# Altium footprint library PcbLib1.PcbLib: 14 footprints
Each footprint in its own frame and in the unit in brackets; x right, y up, seen from the top. Pads: shape width x height; smd on the part's side, far side on the other; paste and mask are expansions set on the pad; w line width, h text height; cw(c..) or ccw(c..) is an arc to the next point about the centre after c.
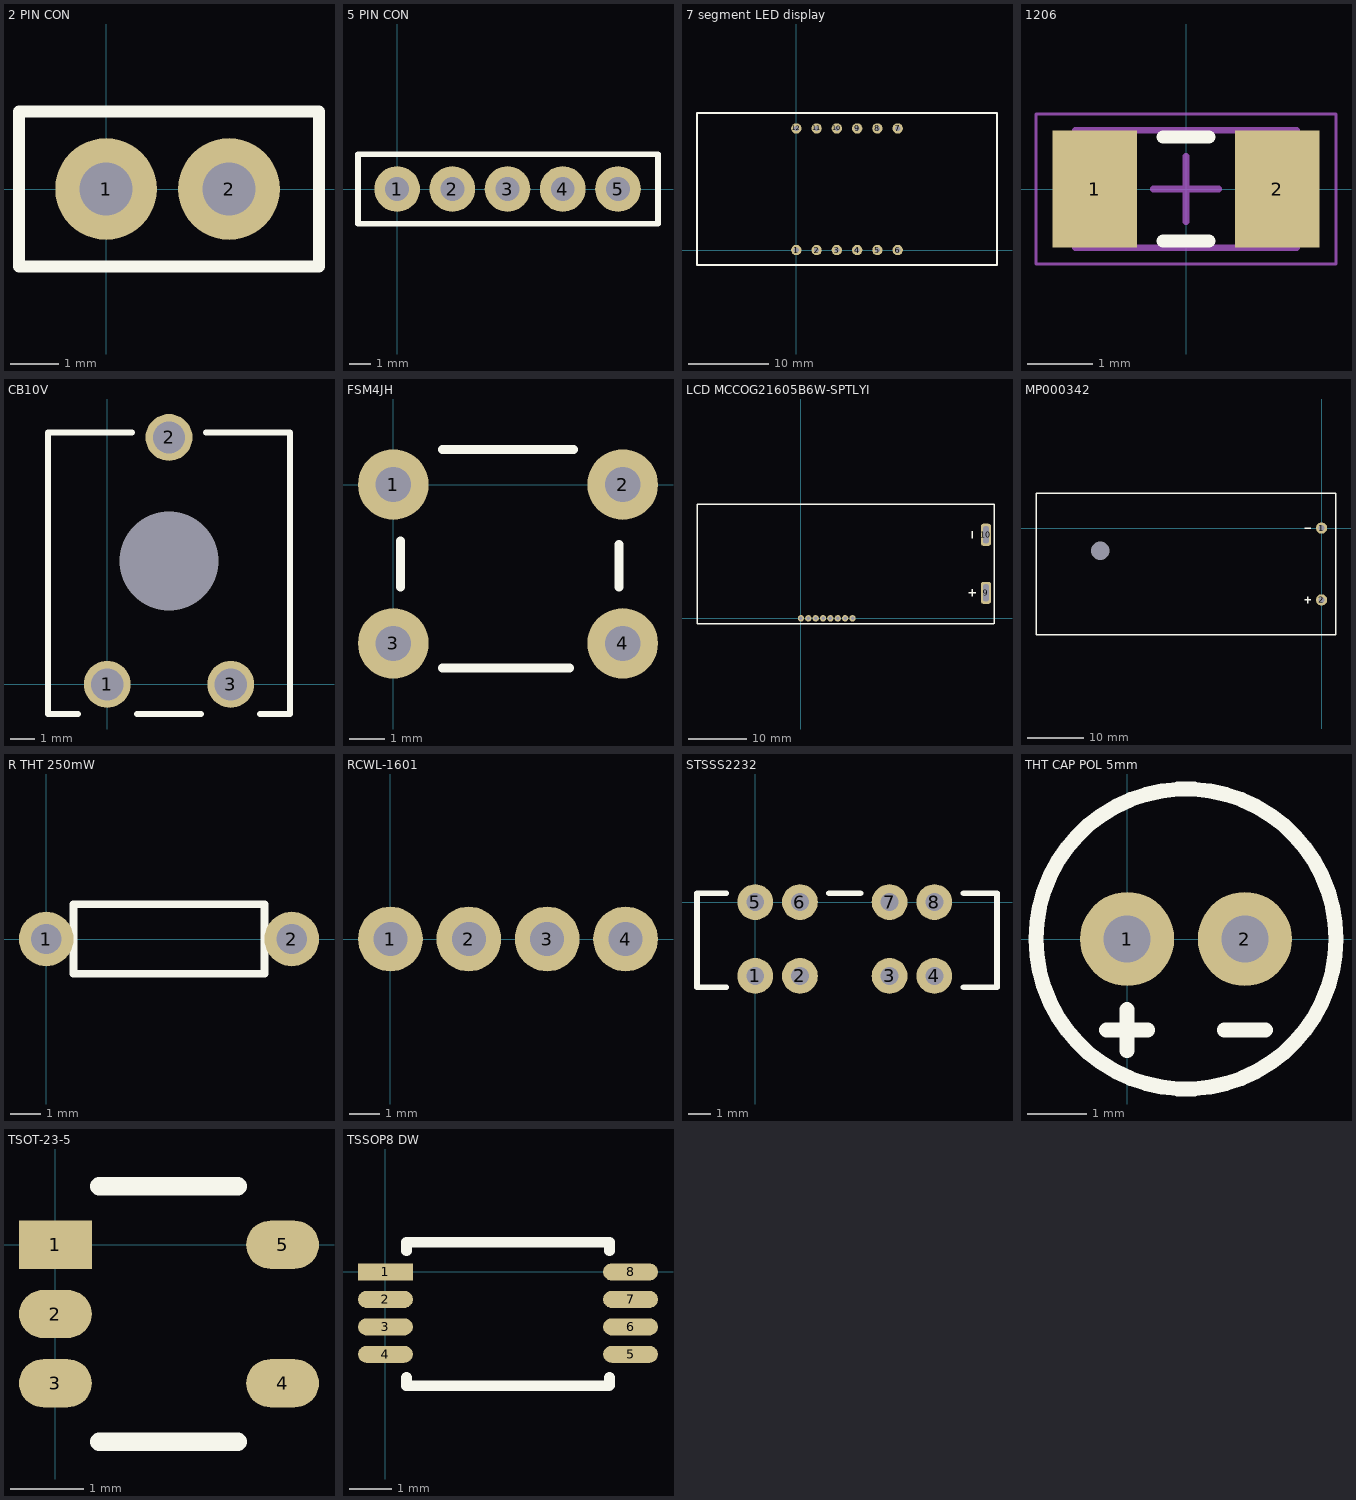
[diagram p0: the footprints below, top view; thin cyan lines are the x and y axes]

## 2 PIN CON [mm]
pads (2):
  round 2.1 hole 1.1 mask+0.102: 1(0,0) 2(2.54,0)
Top Overlay:
  lines w0.254: -1.8,-1.6 -1.8,1.6 4.4,1.6 4.4,-1.6 -1.8,-1.6
3D body: height 5.5, standoff 0, extent 2.033,-0.452 3.029,0.546
3D body: height 5.5, standoff 0, extent -0.496,-0.499 0.5,0.499
3D body: height 2, standoff 0, extent 1.34,-1.2 3.74,1.2
3D body: height 2, standoff 0, extent -1.2,-1.2 1.2,1.2

## 5 PIN CON [mm]
pads (5):
  round 2.1 hole 1.1 mask+0.102: 1(0,0) 2(2.54,0) 3(5.08,0) 4(7.62,0) 5(10.16,0)
Top Overlay:
  lines w0.254: -1.8,-1.6 -1.8,1.6 12,1.6 12,-1.6 -1.8,-1.6
3D body: height 5.5, standoff 0, extent 2.033,-0.452 3.029,0.546
3D body: height 5.5, standoff 0, extent -0.496,-0.499 0.5,0.499
3D body: height 2, standoff 0, extent 1.34,-1.2 3.74,1.2
3D body: height 2, standoff 0, extent -1.2,-1.2 1.2,1.2
3D body: height 5.5, standoff 0, extent 4.584,-0.499 5.58,0.499
3D body: height 2, standoff 0, extent 3.88,-1.2 6.28,1.2
3D body: height 5.5, standoff 0, extent 7.124,-0.499 8.12,0.499
3D body: height 2, standoff 0, extent 6.42,-1.2 8.82,1.2
3D body: height 5.5, standoff 0, extent 9.664,-0.499 10.66,0.499
3D body: height 2, standoff 0, extent 8.96,-1.2 11.36,1.2

## 7 segment LED display [mm] "3 digits"
pads (12):
  round 1.3 hole 0.65 mask+0.102: 1(0,0) 2(2.54,0) 3(5.08,0) 4(7.62,0) 5(10.16,0) 6(12.7,0) 7(12.7,15.24) 8(10.16,15.24) 9(7.62,15.24) 10(5.08,15.24) 11(2.54,15.24) 12(0,15.24)
Top Overlay:
  lines w0.254: -12.45,-1.85 -12.45,17.15 25.15,17.15 25.15,-1.85 -12.45,-1.85
3D body: height 8, standoff 1, extent -12.55,-1.95 25.25,17.25
3D body: height 8.5, standoff 8, extent -10,8 -9,14
3D body: height 8.5, standoff 8, extent -9,14 -3,15
3D body: height 8.5, standoff 8, extent -3,8 -2,14
3D body: height 8.5, standoff 8, extent -9,7 -3,8
3D body: height 8.5, standoff 8, extent -10,1 -9,7
3D body: height 8.5, standoff 8, extent -3,1 -2,7
3D body: height 8.5, standoff 8, extent -9,0 -3,1
3D body: height 8.5, standoff 8, extent 2,8 3,14
3D body: height 8.5, standoff 8, extent 3,14 9,15
3D body: height 8.5, standoff 8, extent 9,8 10,14
3D body: height 8.5, standoff 8, extent 3,7 9,8
3D body: height 8.5, standoff 8, extent 2,1 3,7
3D body: height 8.5, standoff 8, extent 9,1 10,7
3D body: height 8.5, standoff 8, extent 3,0 9,1
3D body: height 8.5, standoff 8, extent 14,8 15,14
3D body: height 8.5, standoff 8, extent 15,14 21,15
3D body: height 8.5, standoff 8, extent 21,8 22,14
3D body: height 8.5, standoff 8, extent 15,7 21,8
3D body: height 8.5, standoff 8, extent 14,1 15,7
3D body: height 8.5, standoff 8, extent 21,1 22,7
3D body: height 8.5, standoff 8, extent 15,0 21,1

## 1206 [mm] "Chip Resistor, 2-Leads, Body 3.20x1.60mm, IPC Medium Density"
height 0.9
pads (2):
  rect 1.3x1.8 smd: 1(-1.4,0) 2(1.4,0)
Top Overlay:
  lines w0.2: -0.35,-0.8 0.35,-0.8 ; -0.35,0.8 0.35,0.8
Mechanical 13:
  lines w0.1: -1.7,-0.9 -1.7,0.9 1.7,0.9 1.7,-0.9 -1.7,-0.9
Mechanical 15:
  lines w0.05: -2.3,-1.15 -2.3,1.15 2.3,1.15 2.3,-1.15 -2.3,-1.15
  lines w0.1: -0.5,0 0.5,0 ; 0,-0.5 0,0.5
3D body: height 0.9, standoff 0, extent -1.2,-0.9 1.2,0.9
3D body: height 0.9, standoff 0, extent -1.7,-0.9 -1.2,0.9
3D body: height 0.9, standoff 0, extent 1.2,-0.9 1.7,0.9

## CB10V [mm] "Potentiometer"
pads (4):
  round 1.9 hole 1.3 mask+0.102: 1(0,0) 2(2.5,10) 3(5,0)
  round 0 hole 4 mask+0.102: ""(2.5,5)
Top Overlay:
  lines w0.254: -1.2,-1.2 -2.4,-1.2 -2.4,10.2 1,10.2 ; 1.2,-1.2 3.8,-1.2 ; 4,10.2 7.4,10.2 7.4,-1.2 6.2,-1.2
3D body: height 6, standoff 0, extent -2.4,-1 7.4,10

## FSM4JH [mm] "Tactile switch"
height 6
pads (4):
  round 2 hole 1: 1(0,0) 2(6.5,0) 3(0,-4.5) 4(6.5,-4.5)
Top Overlay:
  lines w0.254: 0.2,-2.9 0.2,-1.6 ; 1.4,-5.2 5,-5.2 ; 1.4,1 5.1,1 ; 6.4,-2.9 6.4,-1.7
3D body: height 5.5, standoff 4, extent 1.55,-3.95 5.05,-0.45
3D body: height 4, standoff 0, extent 0.3,-5.1 6.3,0.9

## LCD MCCOG21605B6W-SPTLYI [mm] "16x2"
pads (10):
  round 1.1 hole 0.6 mask+0.102: 1(0,0) 2(1.27,0) 3(2.54,0) 4(3.81,0) 5(5.08,0) 6(6.35,0) 7(7.62,0) 8(8.89,0)
  rrect50% 1.8x3.8 hole 1 slot 3 at 90 deg mask+0.102: 9(31.9,4.4) 10(31.9,14.4)
Top Overlay:
  lines w0.254: 28.9,4.4 30.1,4.4 ; 29.5,3.8 29.5,5 ; 29.5,13.8 29.5,15 ; 33.279,-0.979 -17.921,-0.979 -17.921,19.7 33.3,19.7 33.3,-0.959

## MP000342 [mm] "Battery holder 2xAAA"
pads (3):
  round 2 hole 1 mask+0.102: 1(0,0) 2(0,-12.7)
  round 0 hole 3.2 unplated mask+0.102: 3(-39.1,-4)
Top Overlay:
  lines w0.254: -3,-12.7 -1.9,-12.7 ; -3,0 -1.9,0 ; -2.45,-13.25 -2.45,-12.15 ; -50.45,-18.85 2.55,-18.85 2.55,6.15 -50.45,6.15 -50.45,-18.85
3D body: height 12, standoff 0, extent -50,-18.5 -48,5.5
3D body: height 12, standoff 0, extent -50,3.5 2,5.5
3D body: height 12, standoff 0, extent -50,-18.5 2,-16.5
3D body: height 12, standoff 0, extent 0,-18.5 2,5.5
3D body: height 6, standoff 0, extent -48,-7 0,-6
3D body: height 2, standoff 0, extent -50,-18.5 2,5.5

## R THT 250mW [mm]
pads (2):
  round 1.8 hole 1 mask+0.102: 1(0,0) 2(8.1,0)
Top Overlay:
  lines w0.254: 0.9,-1.15 0.9,1.15 7.2,1.15 7.2,-1.15 0.9,-1.15
3D body: height 1.45, standoff 0, extent 7.803,-0.299 8.4,0.3
3D body: height 1.7, standoff 1.1, extent 6.625,-0.3 8.075,0.299
3D body: height 1.7, standoff 1.1, extent -0.025,-0.299 1.425,0.3
3D body: height 1.45, standoff 0, extent -0.297,-0.299 0.3,0.3
3D body: height 2.85, standoff 0.55, extent 0.9,-1.141 7.2,1.15

## RCWL-1601 [mm] "Ultrasonic distance sensor"
pads (4):
  round 2.1 hole 1.1 mask+0.102: 1(0,0) 2(2.54,0) 3(5.08,0) 4(7.62,0)
3D body: height 18, standoff 0.2, extent -16.2,-2.1 23.8,-1.1
3D body: height 17, standoff 2, extent -14,-9.1 1,-2.1
3D body: height 17, standoff 2, extent 6.6,-9.1 21.6,-2.1
3D body: height 3.5, standoff 2.5, extent -0.498,-1.1 0.498,0.4
3D body: height 3.5, standoff 2.5, extent 2.042,-1.1 3.038,0.4
3D body: height 3.5, standoff 2.5, extent 4.582,-1.1 5.578,0.4
3D body: height 3.5, standoff 2.5, extent 7.122,-1.1 8.118,0.4
3D body: height 3, standoff -1, extent -0.496,-0.499 0.5,0.499
3D body: height 3, standoff -1, extent 2.044,-0.499 3.04,0.499
3D body: height 3, standoff -1, extent 4.584,-0.499 5.58,0.499
3D body: height 3, standoff -1, extent 7.124,-0.499 8.12,0.499

## STSSS2232 [mm] "Slide switch 3POS"
pads (8):
  round 1.6 hole 0.8 mask+0.102: 1(0,-3.3) 2(2,-3.3) 3(6,-3.3) 4(8,-3.3) 5(0,0) 6(2,0) 7(6,0) 8(8,0)
Top Overlay:
  lines w0.254: -1.3,-3.8 -2.6,-3.8 -2.6,0.4 -1.3,0.4 ; 3.3,0.4 4.7,0.4 ; 9.3,-3.8 10.8,-3.8 10.8,0.4 9.3,0.4
3D body: height 2, standoff 0, extent -0.297,-0.299 0.3,0.3
3D body: height 2, standoff 0, extent 1.703,-0.299 2.3,0.3
3D body: height 2, standoff 0, extent 5.703,-0.299 6.3,0.3
3D body: height 2, standoff 0, extent 7.703,-0.299 8.3,0.3
3D body: height 2, standoff 0, extent 7.703,-3.599 8.3,-3
3D body: height 2, standoff 0, extent 5.703,-3.599 6.3,-3
3D body: height 2, standoff 0, extent 1.703,-3.599 2.3,-3
3D body: height 2, standoff 0, extent -0.297,-3.599 0.3,-3
3D body: height 2.5, standoff 1.5, extent 3.25,-5.4 4.75,-3.4
3D body: height 3.5, standoff 0.2, extent -2.4,-3.45 10.6,0.05

## THT CAP POL 5mm [mm]
pads (2):
  round 1.6 hole 0.8 mask+0.102: 1(0,0) 2(2,0)
Top Overlay:
  circle w0.254: c1,0 r2.55
  lines w0.254: -0.35,-1.55 -0.175,-1.55 0.175,-1.55 0.35,-1.55 ; 0,-1.9 0,-1.2 ; 1.65,-1.55 1.825,-1.55 2.175,-1.55 2.35,-1.55
3D body: height 8.5, standoff 0.5, extent -1.5,-2.497 3.5,2.497

## TSOT-23-5 [mm]
pads (5):
  rect 1x0.66 smd: 1(0,0)
  oval 1x0.66 smd: 2(0,-0.95) 3(0,-1.9) 4(3.115,-1.9) 5(3.115,0)
Top Overlay:
  lines w0.254: 0.6,-2.7 2.5,-2.7 ; 0.6,0.8 2.5,0.8
3D body: height 1, standoff 0.1, extent 0.65,-2.4 2.45,0.5

## TSSOP8 DW [mm]
pads (8):
  rect 1.3x0.4 smd: 1(0,0)
  oval 1.3x0.4 smd: 2(0,-0.65) 3(0,-1.3) 4(0,-1.95) 5(5.8,-1.95) 6(5.8,-1.3) 7(5.8,-0.65) 8(5.8,0)
Top Overlay:
  lines w0.254: 0.5,-2.5 0.5,-2.682 0.491,-2.69 5.291,-2.69 5.3,-2.682 5.3,-2.5 ; 0.5,0.5 0.5,0.7 5.3,0.7 5.3,0.5
3D body: height 1.2, standoff 0.1, extent 0.7,-2.5 5.1,0.5